# Altium footprint library 691 211 720 0xx.PcbLib: 2 footprints
Each footprint in its own frame and in the unit in brackets; x right, y up, seen from the top. Pads: shape width x height; smd on the part's side, far side on the other; paste and mask are expansions set on the pad; w line width, h text height; cw(c..) or ccw(c..) is an arc to the next point about the centre after c.
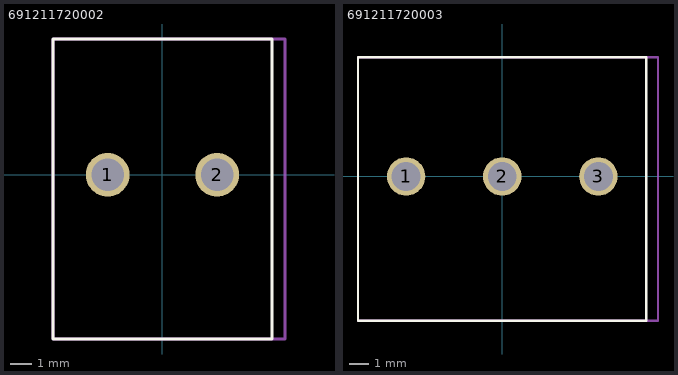
[diagram p0: the footprints below, top view; thin cyan lines are the x and y axes]

## 691211720002 [mm] "5,00mm - modular - green -45° entry with rising cage clamp - 02p"
height 15.5
pads (2):
  round 2 hole 1.5: 1(-2.5,0) 2(2.5,0)
Top Overlay:
  lines w0.127: -5,-7.5 5,-7.5 5,6.2 -5,6.2 -5,-7.5
Mechanical 13:
  lines w0.127: -5,-7.5 -5,6.2 5.6,6.2 5.6,-7.5 -5,-7.5
3D body: height 15.52, standoff -3.58, extent -5,-7.5 5.6,6.2

## 691211720003 [mm] "5,00mm - modular - green -45° entry with rising cage clamp - 03p"
height 15.5
pads (3):
  round 2 hole 1.5: 1(-5,0) 2(0,0) 3(5,0)
Top Overlay:
  lines w0.127: -7.5,-7.5 -7.5,6.2 7.5,6.2 7.5,-7.5 -7.5,-7.5
Mechanical 13:
  lines w0.127: -7.5,-7.5 -7.5,6.2 8.1,6.2 8.1,-7.5 -7.5,-7.5
3D body: height 15.52, standoff -3.58, extent -7.5,-7.5 8.1,6.2